# EAGLE library part CPL-MCU-ATMEL-AT328-32TQFP (library TinWhiskers)
Processor: Atmega AT328; Package: 32-TQFP; Datasheet: http://www.atmel.com/devices/atmega328.aspx
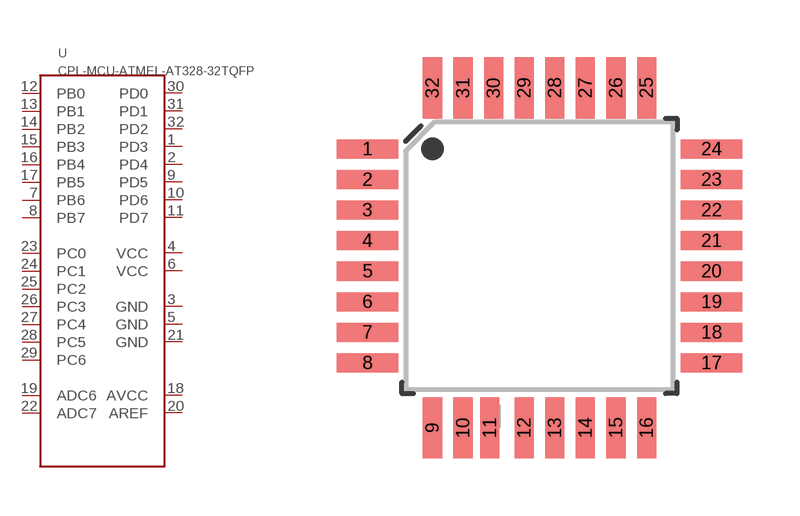
[diagram p21: symbol with the pads of 32-TQF(ATMEGA); footprint 32-TQF(ATMEGA)]

Designator prefix U

## CPL-MCU-ATMEL-AT328-32TQFP  [32-TQF(ATMEGA)]
1  PD3
2  PD4
3  GND
4  VCC
5  GND
6  VCC
7  PB6
8  PB7
9  PD5
10  PD6
11  PD7
12  PB0
13  PB1
14  PB2
15  PB3
16  PB4
17  PB5
18  AVCC
19  ADC6
20  AREF
21  GND
22  ADC7
23  PC0
24  PC1
25  PC2
26  PC3
27  PC4
28  PC5
29  PC6
30  PD0
31  PD1
32  PD2

## Footprint 32-TQF(ATMEGA) (pad centres in mm)
TQFN (32-Pin), 7mm; Source: Micrel (http://www.micrel.com/_PDF/other/unofficial-pcb-footprints/TQFPEP7X7-32LD-PL-1-A.pdf)
smd 1.6 x 0.5: 1 -4.5,2.8; 2 -4.5,2; 3 -4.5,1.2; 4 -4.5,0.4; 5 -4.5,-0.4; 6 -4.5,-1.2; 7 -4.5,-2; 8 -4.5,-2.8; 17 4.5,-2.8; 18 4.5,-2; 19 4.5,-1.2; 20 4.5,-0.4; 21 4.5,0.4; 22 4.5,1.2; 23 4.5,2; 24 4.5,2.8
smd 0.5 x 1.6: 9 -2.8,-4.5; 10 -2,-4.5; 11 -1.3,-4.5; 12 -0.4,-4.5; 13 0.4,-4.5; 14 1.2,-4.5; 15 2,-4.5; 16 2.8,-4.5; 25 2.8,4.4; 26 2,4.4; 27 1.2,4.4; 28 0.4,4.4; 29 -0.4,4.4; 30 -1.2,4.4; 31 -2,4.4; 32 -2.8,4.4